# EAGLE library part 52559-0992 (library con-molex)
FFC/FPC-to-Board 0.50mm (.020") SMT, Vertical, ZIF Receptacle Source: http://www.molex.com/product/ffc/52559.html
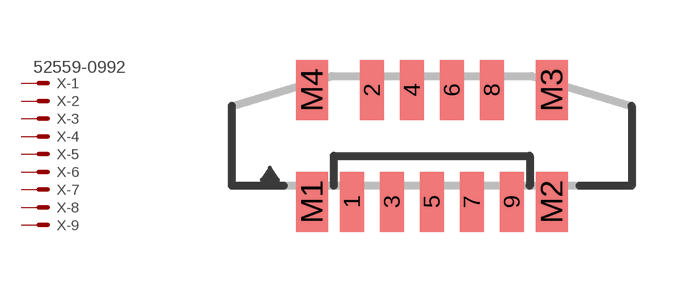
[diagram p61: symbol with the pads of 52559-0992; footprint 52559-0992]

Designator prefix X; gates -1=MV -2=M -3=M -4=M -5=M -6=M -7=M -8=M -9=M

## 52559-0992 (MF: MOLEX; OC_FARNELL: unknown; OC_NEWARK: unknown)  [52559-0992]
1  -1:S  pas
2  -2:S  pas
3  -3:S  pas
4  -4:S  pas
5  -5:S  pas
6  -6:S  pas
7  -7:S  pas
8  -8:S  pas
9  -9:S  pas

## Footprint 52559-0992 (pad centres in mm)
Easy-On™ Type FFC/FPC Connector, Vertical, Surface Mount, ZIF, 9 Circuits, Gold (Au) Contact Plating, High Barrier Packaging Datasheet <http://www.molex.com/pdm_docs/sd/525590952_sd.pdf>
smd 0.6 x 1.5: 1 -2,-1.4; 2 -1.5,1.4; 3 -1,-1.4; 4 -0.5,1.4; 5 0,-1.4; 6 0.5,1.4; 7 1,-1.4; 8 1.5,1.4; 9 2,-1.4
smd 0.8 x 1.5: M1 -3,-1.4; M2 3,-1.4; M3 3,1.4; M4 -3,1.4